# EAGLE library part MC33883 (library %mine)
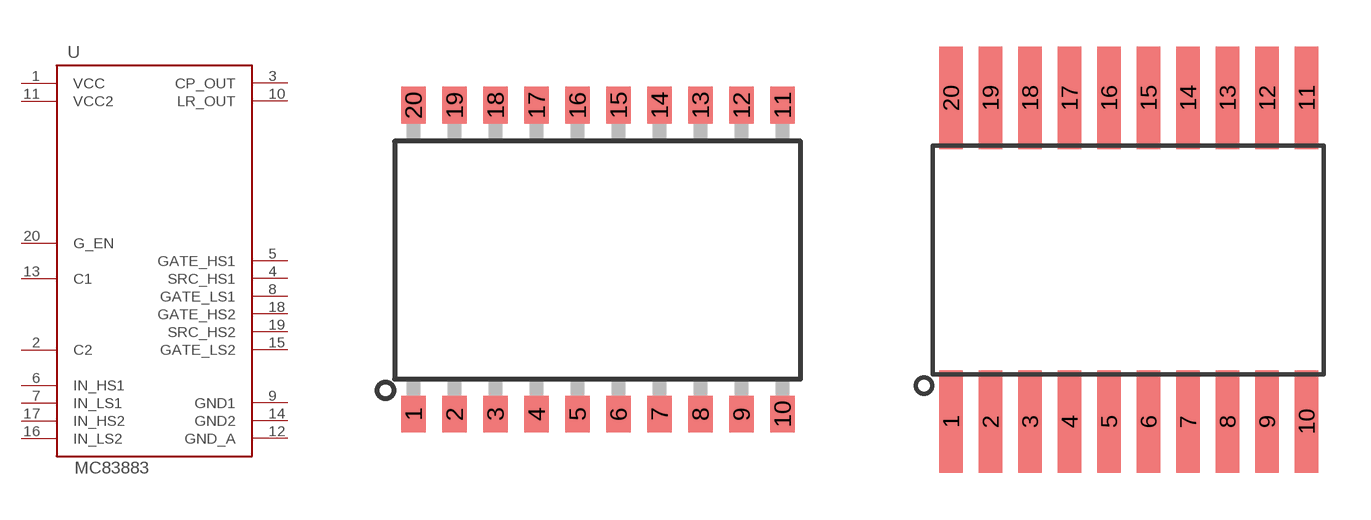
[diagram p1: symbol with the pads of SO-20W; footprints SO-20W, SO-20W-HAND]

Designator prefix U

## MC33883SO-20W  [SO-20W]
1  VCC
2  C2
3  CP_OUT
4  SRC_HS1
5  GATE_HS1
6  IN_HS1
7  IN_LS1
8  GATE_LS1
9  GND1
10  LR_OUT
11  VCC2
12  GND_A
13  C1
14  GND2
15  GATE_LS2
16  IN_LS2
17  IN_HS2
18  GATE_HS2
19  SRC_HS2
20  G_EN

## MC33883SO-20W-HAND  [SO-20W-HAND]
Pads as for SO-20W

## Footprint SO-20W (pad centres in mm)
Small Outline Wide Plastic Gull Wing 300-mil body, package type SO
smd 0.762 x 1.143: 1 -5.715,-4.788; 2 -4.445,-4.788; 3 -3.175,-4.788; 4 -1.905,-4.788; 5 -0.635,-4.788; 6 0.635,-4.788; 7 1.905,-4.788; 8 3.175,-4.788; 9 4.445,-4.788; 10 5.715,-4.788; 11 5.715,4.788; 12 4.445,4.788; 13 3.175,4.788; 14 1.905,4.788; 15 0.635,4.788; 16 -0.635,4.788; 17 -1.905,4.788; 18 -3.175,4.788; 19 -4.445,4.788; 20 -5.715,4.788

## Footprint SO-20W-HAND (pad centres in mm)
Small Outline Wide Plastic Gull Wing for hand-soldering 300-mil body, package type SO
smd 0.762 x 3.302: 1 -5.715,-5.207; 2 -4.445,-5.207; 3 -3.175,-5.207; 4 -1.905,-5.207; 5 -0.635,-5.207; 6 0.635,-5.207; 7 1.905,-5.207; 8 3.175,-5.207; 9 4.445,-5.207; 10 5.715,-5.207; 11 5.715,5.207; 12 4.445,5.207; 13 3.175,5.207; 14 1.905,5.207; 15 0.635,5.207; 16 -0.635,5.207; 17 -1.905,5.207; 18 -3.175,5.207; 19 -4.445,5.207; 20 -5.715,5.207